# Altium integrated library Capacitor.IntLib: 4 symbols
Pins are listed as number, name and electrical type; pins without a type are passive.

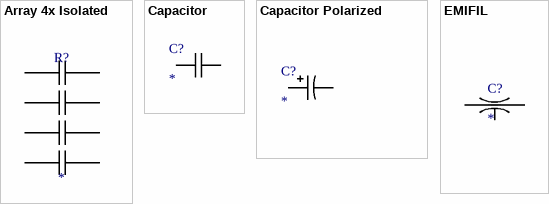
[diagram p0: symbols Array 4x Isolated to EMIFIL]

## Array 4x Isolated
designator R?
Array 4x Isolated; Value: *
footprint ARRAY CKCL44 (Chip Capacitor Array, TDK)
pins: 1, 2, 3, 4, 5, 6, 7, 8

## Capacitor
designator C?
Capacitor; Value: *
footprint CAPACITOR 1005 REFLOW (Capacitor SMD 1.0x0.5mm (0402-imperial))
footprint CAPACITOR 1608 REFLOW (Capacitor SMD 1.6x0.8mm (0603-imperial))
footprint CAPACITOR 2012 REFLOW (Capacitor SMD 2.0x1.2mm (0805-imperial))
footprint Capacitor P2.5 C4.5x2.5 H4.0 (Capacitor Ceramic)
footprint Capacitor P2.5 C5.0x3.0 H8.0 (Capacitor Polypropylene)
footprint CAPACITOR 3216 REFLOW (Capacitor SMD 3.2x1.6mm (1206-imperial))
footprint CAPACITOR 3225 REFLOW (Capacitor SMD 3.2x2.5mm (1210-imperial))
footprint CAPACITOR 0603 REFLOW (Capacitor SMD 0.6x0.3mm (0201-imperial))
footprint CAPACITOR 4520 REFLOW (Capacitor SMD 4.5x2.0mm (1808-imperial))
footprint Capacitor P27.5 C32.0x18.0 H33.0 (Capacitor Polypropylene)
footprint Capacitor P22.5 C27.0x9.0 H19.0 (Capacitor Film)
footprint CAPACITOR EIA 4036 Kemet WP (Capacitor SMD 10.4x9.2mm)
footprint CAPACITOR 5650 REFLOW (Capacitor SMD 5.6x5.0mm (2220-imperial))
footprint Capacitor P15.0 C18.0x7.0 H14.0 (Capacitor Film)
footprint Capacitor P22.5 C26.5x6.0 H15.0 (Capacitor Film)
footprint Capacitor P27.5 C31.5x13.0 H24.0 (Capacitor Film)
footprint Capacitor P37.5 C41.5x19.0 H32.0 (Capacitor Film)
footprint CAPACITOR 4532 REFLOW (Capacitor SMD 4.5x3.2mm (1812-imperial))
footprint Capacitor P27.5 C32.0x15.0 H26.0 (Capacitor Polypropylene)
footprint Capacitor P37.5x20.3  C42.5x28.0 H37.0 (Capacitor Film); pin to pad 1>1+3 2>2+4
footprint Capacitor P27.5x10.2 C32.0x18.0 H33.0 (Capacitor Polypropylene); pin to pad 1>1+3 2>2+4
footprint Capacitor P57.5x38.0  C52.5x10.2x10.2 H57.5 (Capacitor Film); pin to pad 1>1+3+5 2>2+4+6
footprint Capacitor P3.0 C4.6x4.6 H9.0 (Capacitor Polypropylene)
footprint Capacitor P5.0 C7.0x4.6 H9.5 (Capacitor Polypropylene)
footprint Capacitor P7.5 C8.0x7.0 H8.0 (Capacitor)
footprint Capacitor P37.5x10.2  C42.0x20.0 H40.0 (Capacitor Film)
footprint Capacitor P10.0 C6.0x13.0 H12.0 (Capacitor Film)
footprint Capacitor P15.0 C18.0x10.0 H16.5 (Capacitor Film)
footprint CAPACITOR 0510 REFLOW (Capacitor SMD 0.5x1.0mm (0204-imperial))
pins: 1, 2

## Capacitor Polarized
designator C?
Capacitor polarized; Value: *
footprint CAPACITOR POL 3216-18 REFLOW (Capacitor SMD 3.2x1.6mm, Height 1.8mm,  (TAJ-A))
footprint CAPACITOR POL 3528-21 REFLOW (Capacitor SMD 3.5x2.8mm, Height 2.1mm,  (TAJ-B))
footprint CAPACITOR POL 6032-28 REFLOW (Chip Capacitor, 2-Leads, Body 6.00x3.20mm, Height 2.8mm,  (TAJ-C))
footprint CAPACITOR POL 7343-43 REFLOW (Chip Capacitor, 2-Leads, Body 7.30x4.30mm, Height 4.30mm,  (TAJ-E))
footprint CAPACITOR POL 7343-31 REFLOW (Chip Capacitor, 2-Leads, Body 7.30x4.30mm, Height 3.1mm,  (TAJ-D))
footprint Capacitor POL P2.00 D5.5 H12.0 (Capacitor Electrolyte Polarized Pitch 2mm, Diameter 5.5mm, Height 12mm)
footprint Capacitor POL P3.5 D8.0 H13.0 (Capacitor Electrolyte Polarized Pitch 3.5mm, Diameter 8mm, Height 13mm)
footprint Capacitor POL P5 D13 H20 (Capacitor Electrolyte Polarized Pitch 5mm, Diameter 13mm, Height 20mm)
footprint Capacitor POL P7.5 D16 H33 (Capacitor Electrolyte Polarized Pitch 7.5mm, Diameter 16mm, Height 33mm)
footprint CAPACITOR POL 7361-38 REFLOW (Chip Capacitor, 2-Leads, Body 7.30x6.10mm, Height 3.8mm,  (AVX TAJ-V))
footprint Capacitor POL SMD D8.0 H10.0 (Capacitor Electrolyte Polarized SMD, Diameter 8mm, Height 10mm)
footprint Capacitor POL SMD D10.0 H10.0 (Capacitor Electrolyte Polarized SMD, Diameter 10mm, Height 10mm)
footprint CAPACITOR POL 7343-20 REFLOW (Chip Capacitor, 2-Leads, Body 7.30x4.30mm, Height 1.9mm,  (TAJ-V))
footprint Capacitor POL P5 D10 H16 (Capacitor Electrolyte Polarized Pitch 5mm, Diameter 10mm, Height 16mm)
footprint Capacitor POL P5 D10 H21 (Capacitor Electrolyte Polarized Pitch 5mm, Diameter 10mm, Height 21mm)
footprint Capacitor POL P10.0 D35 H50 (Capacitor Electrolyte Polarized Pitch 10.0mm, Diameter 35.0mm, Height 50mm)
footprint Capacitor POL SMD D16.0 H21.5 (Capacitor Electrolyte Polarized SMD, Diameter 16mm, Height 21.5mm)
footprint Capacitor POL SMD D16.0 H17.0 (Capacitor Electrolyte Polarized SMD, Diameter 16mm, Height 17mm)
footprint Capacitor POL P7.5 D18 H35.5 (Capacitor Electrolyte Polarized Pitch 7.5mm, Diameter 18mm, Height 35.5mm)
footprint Capacitor POL P43.0 D16 L39.0 (Capacitor Electrolyte Polarized Pitch 43.0mm, Diameter 16mm, Length 39.0mm)
footprint CAPACITOR POL 7343-15 REFLOW (Chip Capacitor, 2-Leads, Body 7.30x4.30mm, Height 1.5mm,  (AVX TAJ-X) (KEMET TAJ-W))
footprint CAPACITOR POL 3528-12 REFLOW (Chip Capacitor, 2-Leads, Body 3.5x2.8mm, Height 1.2mm,  (AVX,Kemet TAJ-T) (Vishay TAJ-N))
footprint Capacitor POL P30.0 D10 L26.0 (Capacitor Electrolyte Polarized Pitch 30.0mm, Diameter 10mm, Length 30.0mm)
footprint Capacitor POL SMD D5.0 H5.4 (Capacitor Electrolyte Polarized SMD, Diameter 5.0mm, Height 5.4mm)
footprint Capacitor POL SMD D6.3 H5.4 (Capacitor Electrolyte Polarized SMD, Diameter 6.3mm, Height 5.4mm)
footprint Capacitor POL SMD D10.5 H5.5 (Capacitor Electrolyte Polarized SMD, Diameter 10.5mm, Height 5.5mm)
footprint Capacitor POL P10.0 D25 H40 (Capacitor Electrolyte Polarized Pitch 10.0mm, Diameter 25.0mm, Height 40mm)
footprint Capacitor POL P10.0 D22 H45 (Capacitor Electrolyte Polarized Pitch 10.0mm, Diameter 22.0mm, Height 45mm)
pins: 1, 2

## EMIFIL
designator C?
3 Terminals Low ESL Chip Multilayer Ceramic Capacitors; Value: *
footprint EMIFIL 3216 REFLOW (3 Terminals Capacitors SMD 3.2x1.6mm (1206-imperial))
footprint EMIFIL 1005 REFLOW (3 Terminals Capacitors SMD 1.0x0.5mm (0402-imperial))
pins: 1, 2, 3